# Altium schematic symbol library AMS1117.SchLib: 1 symbol
Pins are listed as number, name and electrical type; pins without a type are passive.

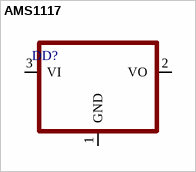
[diagram p0: symbol AMS1117]

## AMS1117
designator DD?
pins: 1 GND, 2 VO, 3 VI